# Altium footprint library OACA_BELFUSE.PcbLib: 1 footprints
Each footprint in its own frame and in the unit in brackets; x right, y up, seen from the top. Pads: shape width x height; smd on the part's side, far side on the other; paste and mask are expansions set on the pad; w line width, h text height; cw(c..) or ccw(c..) is an arc to the next point about the centre after c.
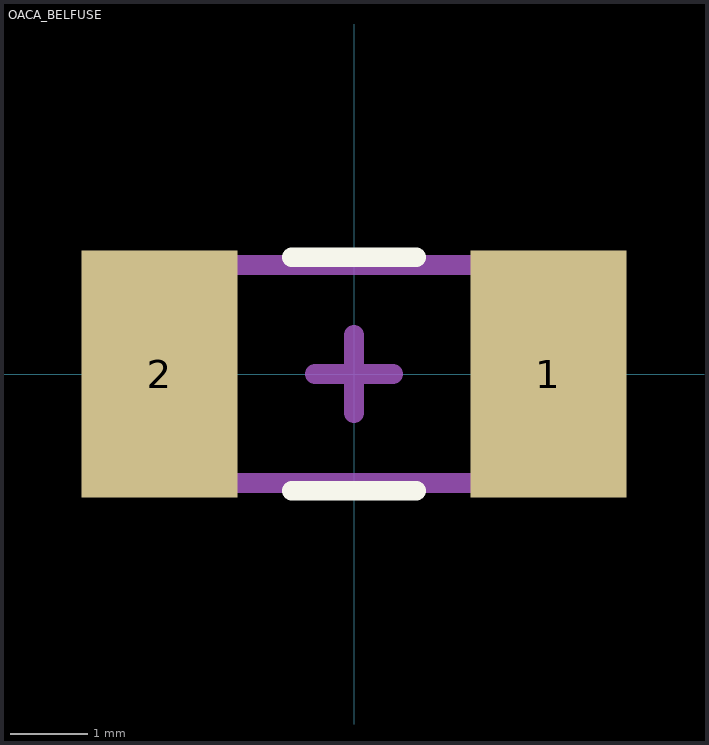
[diagram p0: the footprint, top view; thin cyan lines are the x and y axes]

## OACA_BELFUSE [mm]
pads (2):
  rect 2x3.18 smd mask+0.051: 1(2.5,0) 2(-2.5,0)
Top Overlay:
  lines w0.254: -0.8,-1.5 0.8,-1.5 ; -0.8,1.5 0.8,1.5
Top Designator:
  text ".Designator" at -7.618,-0.508 h1.52
Mechanical 13:
  lines w0.254: -3,-1.4 -3,1.4 3,1.4 3,-1.4 -3,-1.4
Mechanical 15:
  lines w0.254: -0.5,0 0,0 ; 0,-0.5 0,0 ; 0,0.5 0,0 ; 0.5,0 0,0
3D body "0679H0630-05.STEP": height 2.57, standoff 0.03, extent -3.05,-1.4 3.05,1.39